# Altium schematic symbol library ExtruderFinLib.SchLib: 18 symbols
Pins are listed as number, name and electrical type; pins without a type are passive.

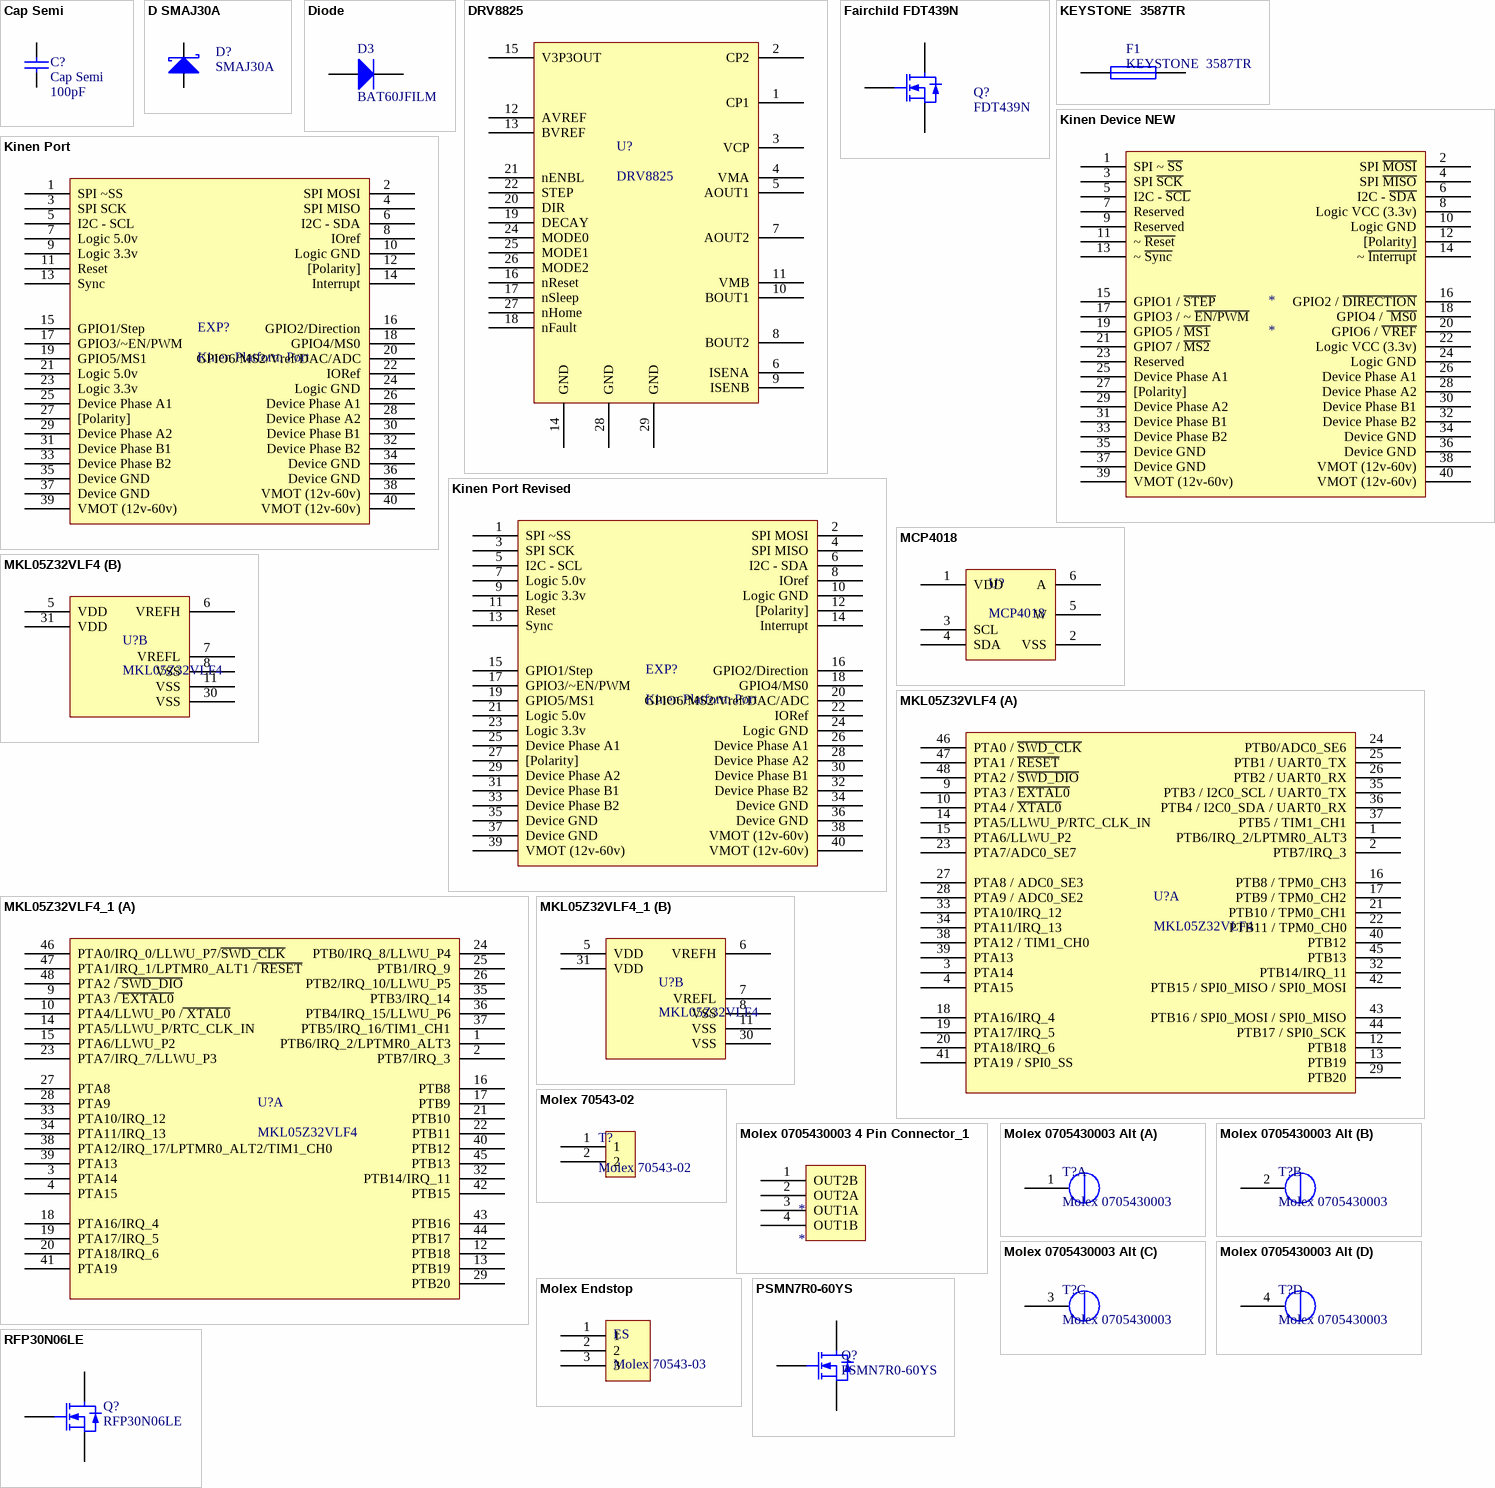
[diagram p0: symbols Cap Semi to RFP30N06LE]

## Cap Semi
designator C?  value 100pF
Capacitor (Semiconductor SIM Model); Published: 8-Jun-2000; LatestRevisionDate: 29-May-2009; LatestRevisionNote: IPC-7351 Footprint Added.; PackageReference: C1206; Publisher: Altium Limited; PackageDescription: Chip Capacitor
footprint C1206 (Chip Capacitor, Body 3.2x1.6mm, IPC High Density)
footprint 0402 (Chip Capacitor, Body 1.0x0.5mm, IPC High Density)
footprint C2512 (Chip Capacitor, Body 2.54x1.27mm, IPC High Density)
footprint 1608[0603] (Chip Capacitor, Body 1.6x0.8mm, IPC High Density)
footprint C1210 (Chip Capacitor, Body 3.2x2.5mm, IPC High Density)
simulation model CAP (Semiconductor Capacitor)
signal-integrity model Cap Semi
pins: 1, 2

## D SMAJ30A
designator D?, comment SMAJ30A
Published: 8-Jun-2000; LatestRevisionDate: 17-Jul-2002; LatestRevisionNote: Re-released for DXP Platform.; PackageReference: SMB; Publisher: Altium Limited; PackageDescription: DO-214-AA/SMB; 2 C-Bend Leads; Body 5.3 x 3.6 mm, inc. leads (LxW); Code_JEDEC: DO-214-AA
footprint SMB (DO-214-AA/SMB; 2 C-Bend Leads; Body 5.3 x 3.6 mm, inc. leads (LxW))
simulation model SKYDIODE (Diode)
signal-integrity model D Schottky
footprint SMAJ30A (Molded Diode, 2-Leads, Body 4.25x2.67mm, IPC Medium Density)
pins: 1 A, 2 K

## Diode
designator D3, comment BAT60JFILM
Default Diode; Code - JEDEC: DO-214-AB; Published: 8-Jun-2000; Revision: July-2002: Re-released for DXP Platform.; Publisher: Altium Limited
footprint DSO-C2/X3.3 (DO-214-AB/SMC; 2 C-Bend Leads; Body 7.9 x 5.9 mm, inc. leads (LxW))
simulation model DIODE (Diode)
signal-integrity model Diode
footprint SOD-323
pins: 1 A, 2 K

## DRV8825
designator U?
DRV8825 Ti Stepper Driver
footprint DRV8825 (TSOP, 28-Leads, Body 9.70x4.40mm, Pitch 0.65mm, Thermal Pad 5.22.2x3.10.2mm, IPC Medium Density)
pins: 1 CP1, 2 CP2, 3 VCP, 4 VMA, 5 AOUT1, 6 ISENA, 7 AOUT2, 8 BOUT2, 9 ISENB, 10 BOUT1, 11 VMB, 12 AVREF, 13 BVREF, 14 GND, 15 V3P3OUT, 16 nReset, 17 nSleep, 18 nFault, 19 DECAY, 20 DIR, 21 nENBL, 22 STEP, 23 NC hidden, 24 MODE0, 25 MODE1, 26 MODE2, 27 nHome, 28 GND, 29 GND

## Fairchild FDT439N
designator Q?, comment FDT439N
N-Channel MOSFET; Published: 8-Jun-2000; LatestRevisionDate: 17-Jul-2002; LatestRevisionNote: Re-released for DXP Platform.; PackageVersion: 1995/1996; PackageReference: E3; Publisher: Altium Limited; PackageDescription: TO, Flat Index; 3 In-Line, Axial Leads; Body Dia. 4.6mm; Lead Dia. 0.5 mm (max)
simulation model NMOS (MOSFET-N)
footprint Fairchild FDT439N (SOT223, 4-Leads, Body 6.60x7.08mm (avg), Pitch 2.30mm, IPC Medium Density)
pins: 1 G, 2 D, 3 S, 4 D hidden to 2

## KEYSTONE  3587TR
designator F1
Published: 8-Jun-2000; LatestRevisionDate: 17-Jul-2002; LatestRevisionNote: Re-released for DXP Platform.; PackageReference: PIN-W2/E2.8; Publisher: Altium Limited; PackageDescription: Thru-Hole; 2 Leads
simulation model FUSE (Spice Subcircuit)
footprint TinyFuseATO_Carrier (TinyFuse ATO Automotive fuse holder 153008)
footprint KEYSTONE  3587TR (KEYSTONE  3587TR  Automotive FUse Holder)
pins: 1, 2

## Kinen Device NEW
designator *
footprint Kinen Port - Device (Synthetos Kinen Expansion Port Socket)
pins: 1 SPI ~ ~{SS}, 2 SPI ~{MOSI}, 3 SPI ~{SCK}, 4 SPI ~{MISO}, 5 I2C - ~{SCL}, 6 I2C - ~{SDA}, 7 Reserved, 8 Logic VCC (3.3v), 9 Reserved, 10 Logic GND, 11 ~ ~{Reset}, 12 [Polarity], 13 ~ ~{Sync}, 14 ~ ~{Interrupt}, 15 GPIO1 / ~{STEP}, 16 GPIO2 / ~{DIRECTION}, 17 GPIO3 / ~ ~{EN/PWM}, 18 GPIO4 / ~{ MS0}, 19 GPIO5 / ~{MS1}, 20 GPIO6 / ~{VREF}, 21 GPIO7 / ~{MS2}, 22 Logic VCC (3.3v), 23 Reserved, 24 Logic GND, 25 Device Phase A1, 26 Device Phase A1, 27 [Polarity], 28 Device Phase A2, 29 Device Phase A2, 30 Device Phase B1, 31 Device Phase B1, 32 Device Phase B2, 33 Device Phase B2, 34 Device GND, 35 Device GND, 36 Device GND, 37 Device GND, 38 VMOT (12v-60v), 39 VMOT (12v-60v), 40 VMOT (12v-60v)

## Kinen Port
designator EXP?, comment Kinen Platform Port
footprint Kinen Port (Synthetos Kinen Expansion Port Socket)
pins: 1 SPI ~SS, 2 SPI MOSI, 3 SPI SCK, 4 SPI MISO, 5 I2C - SCL, 6 I2C - SDA, 7 Logic 5.0v, 8 IOref, 9 Logic 3.3v, 10 Logic GND, 11 Reset, 12 [Polarity], 13 Sync, 14 Interrupt, 15 GPIO1/Step, 16 GPIO2/Direction, 17 GPIO3/~EN/PWM, 18 GPIO4/MS0, 19 GPIO5/MS1, 20 GPIO6/MS2/Vref/DAC/ADC, 21 Logic 5.0v, 22 IORef, 23 Logic 3.3v, 24 Logic GND, 25 Device Phase A1, 26 Device Phase A1, 27 [Polarity], 28 Device Phase A2, 29 Device Phase A2, 30 Device Phase B1, 31 Device Phase B1, 32 Device Phase B2, 33 Device Phase B2, 34 Device GND, 35 Device GND, 36 Device GND, 37 Device GND, 38 VMOT (12v-60v), 39 VMOT (12v-60v), 40 VMOT (12v-60v)

## Kinen Port Revised
designator EXP?, comment Kinen Platform Port
footprint Kinen Port (Synthetos Kinen Expansion Port Socket)
pins: 1 SPI ~SS, 2 SPI MOSI, 3 SPI SCK, 4 SPI MISO, 5 I2C - SCL, 6 I2C - SDA, 7 Logic 5.0v, 8 IOref, 9 Logic 3.3v, 10 Logic GND, 11 Reset, 12 [Polarity], 13 Sync, 14 Interrupt, 15 GPIO1/Step, 16 GPIO2/Direction, 17 GPIO3/~EN/PWM, 18 GPIO4/MS0, 19 GPIO5/MS1, 20 GPIO6/MS2/Vref/DAC/ADC, 21 Logic 5.0v, 22 IORef, 23 Logic 3.3v, 24 Logic GND, 25 Device Phase A1, 26 Device Phase A1, 27 [Polarity], 28 Device Phase A2, 29 Device Phase A2, 30 Device Phase B1, 31 Device Phase B1, 32 Device Phase B2, 33 Device Phase B2, 34 Device GND, 35 Device GND, 36 Device GND, 37 Device GND, 38 VMOT (12v-60v), 39 VMOT (12v-60v), 40 VMOT (12v-60v)

## MCP4018
designator U?
footprint MCP4018 (SOT23, 6-Leads, Body 1.93x2.10mm, Pitch 0.65mm, IPC Medium Density)
pins: 1 VDD, 2 VSS, 3 SCL, 4 SDA, 5 W, 6 A

## MKL05Z32VLF4
designator U?
ARM Cortex M0+
footprint MKL05Z32VLF4 (TSQFP, 48-Leads, Body 7.00x7.00mm, Pitch 0.50mm, IPC Medium Density)
part A pins: 1 PTB6/IRQ_2/LPTMR0_ALT3, 2 PTB7/IRQ_3, 3 PTA14, 4 PTA15, 9 PTA3 / ~{EXTAL0}, 10 PTA4 / ~{XTAL0}, 12 PTB18, 13 PTB19, 14 PTA5/LLWU_P/RTC_CLK_IN, 15 PTA6/LLWU_P2, 16 PTB8 / TPM0_CH3, 17 PTB9 / TPM0_CH2, 18 PTA16/IRQ_4, 19 PTA17/IRQ_5, 20 PTA18/IRQ_6, 21 PTB10 / TPM0_CH1, 22 PTB11 / TPM0_CH0, 23 PTA7/ADC0_SE7, 24 PTB0/ADC0_SE6, 25 PTB1 / UART0_TX, 26 PTB2 / UART0_RX, 27 PTA8 / ADC0_SE3, 28 PTA9 / ADC0_SE2, 29 PTB20, 32 PTB14/IRQ_11, 33 PTA10/IRQ_12, 34 PTA11/IRQ_13, 35 PTB3 / I2C0_SCL / UART0_TX, 36 PTB4 / I2C0_SDA / UART0_RX, 37 PTB5 / TIM1_CH1, 38 PTA12 / TIM1_CH0, 39 PTA13, 40 PTB12, 41 PTA19 / SPI0_SS, 42 PTB15 / SPI0_MISO / SPI0_MOSI, 43 PTB16 / SPI0_MOSI / SPI0_MISO, 44 PTB17 / SPI0_SCK, 45 PTB13, 46 PTA0 / ~{SWD_CLK}, 47 PTA1 / ~{RESET}, 48 PTA2 / ~{SWD_DIO}
part B pins: 5 VDD, 6 VREFH, 7 VREFL, 8 VSS, 11 VSS, 30 VSS, 31 VDD

## MKL05Z32VLF4_1
designator U?, comment MKL05Z32VLF4
ARM Cortex M0+
footprint MKL05Z32VLF4 (TSQFP, 48-Leads, Body 7.00x7.00mm, Pitch 0.50mm, IPC Medium Density)
part A pins: 1 PTB6/IRQ_2/LPTMR0_ALT3, 2 PTB7/IRQ_3, 3 PTA14, 4 PTA15, 9 PTA3 /~{ EXTAL0}, 10 PTA4/LLWU_P0 /~{ XTAL0}, 12 PTB18, 13 PTB19, 14 PTA5/LLWU_P/RTC_CLK_IN, 15 PTA6/LLWU_P2, 16 PTB8, 17 PTB9, 18 PTA16/IRQ_4, 19 PTA17/IRQ_5, 20 PTA18/IRQ_6, 21 PTB10, 22 PTB11, 23 PTA7/IRQ_7/LLWU_P3, 24 PTB0/IRQ_8/LLWU_P4, 25 PTB1/IRQ_9, 26 PTB2/IRQ_10/LLWU_P5, 27 PTA8, 28 PTA9, 29 PTB20, 32 PTB14/IRQ_11, 33 PTA10/IRQ_12, 34 PTA11/IRQ_13, 35 PTB3/IRQ_14, 36 PTB4/IRQ_15/LLWU_P6, 37 PTB5/IRQ_16/TIM1_CH1, 38 PTA12/IRQ_17/LPTMR0_ALT2/TIM1_CH0, 39 PTA13, 40 PTB12, 41 PTA19, 42 PTB15, 43 PTB16, 44 PTB17, 45 PTB13, 46 PTA0/IRQ_0/LLWU_P7/~{SWD_CLK}, 47 PTA1/IRQ_1/LPTMR0_ALT1 /~{ RESET}, 48 PTA2 /~{ SWD_DIO}
part B pins: 5 VDD, 6 VREFH, 7 VREFL, 8 VSS, 11 VSS, 30 VSS, 31 VDD

## Molex 70543-02
designator T?
footprint Molex 70543-02
pins: 1, 2

## Molex 0705430003 4 Pin Connector_1
designator *
footprint Molex 0705430003 (4 pin connector)
pins: 1 OUT2B, 2 OUT2A, 3 OUT1A, 4 OUT1B

## Molex 0705430003 Alt
designator T?, comment Molex 0705430003
Molex 4 Pin Clip Connector
footprint Molex 0705430003 (4 pin connector)
part A pins: 1 OUT2B
part B pins: 2 OUT2A
part C pins: 3 OUT1A
part D pins: 4 OUT1B

## Molex Endstop
designator ES, comment Molex 70543-03
footprint MOLEX Endstop
pins: 1, 2, 3

## PSMN7R0-60YS
designator Q?
N-Channel MOSFET; Published: 8-Jun-2000; LatestRevisionDate: 17-Jul-2002; LatestRevisionNote: Re-released for DXP Platform.; PackageVersion: 1995/1996; PackageReference: E3; Publisher: Altium Limited; PackageDescription: TO, Flat Index; 3 In-Line, Axial Leads; Body Dia. 4.6mm; Lead Dia. 0.5 mm (max)
simulation model NMOS (MOSFET-N)
footprint PSMN7R0-60YS (TO, 5-Pads, Body 5.15x5.86mm (max), IPC Medium Density)
pins: 1 S hidden to GND, 2 S hidden to GND, 3 S, 4 G, 5 D

## RFP30N06LE
designator Q?
N-Channel MOSFET; Published: 8-Jun-2000; LatestRevisionDate: 17-Jul-2002; LatestRevisionNote: Re-released for DXP Platform.; PackageVersion: 1995/1996; PackageReference: E3; Publisher: Altium Limited; PackageDescription: TO, Flat Index; 3 In-Line, Axial Leads; Body Dia. 4.6mm; Lead Dia. 0.5 mm (max)
simulation model NMOS (MOSFET-N)
footprint RFP30N06LE (D2-PAK, 3-Pads, Body 7.93x8.69mm (max), IPC Medium Density)
pins: 1 G, 2 D, 3 S